# Altium schematic symbol library 2N7002P_235.SchLib: 1 symbol
Pins are listed as number, name and electrical type; pins without a type are passive.

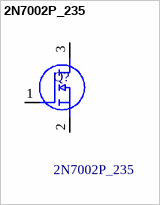
[diagram p0: symbol 2N7002P_235]

## 2N7002P_235
designator Q?
N-Channel 60 V 360mA (Ta) 350mW (Ta) Surface Mount TO-236AB; Manufacturer_Name: Nexperia; Manufacturer_Part_Number: 2N7002P,235; Geometry.Height: 1.1mm; Mouser Part Number: *; Mouser Price/Stock: *; Arrow Part Number: *; Arrow Price/Stock: *; Datasheet Link: https://assets.nexperia.com/documents/data-sheet/2N7002P.pdf
footprint SOT95P230X110-3N
pins: 1 G, 2 S, 3 D